# EAGLE library part V23079D1003B301 (library Display_Custom)
TE Connectivity Potter & Brumfield Relays V23079D1003B301 http://www.te.com/commerce/DocumentDelivery/DDEController?Action=srchrtrv&DocNm=108-98002&DocType=SS&DocLang=EN
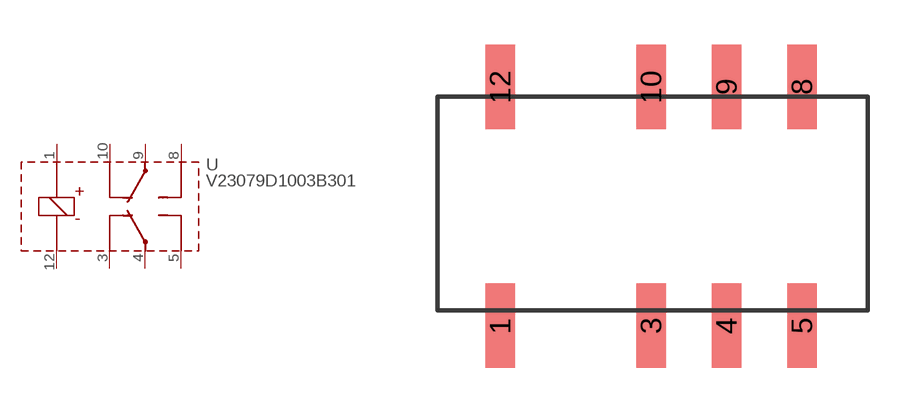
[diagram p3: symbol with the pads of DPDT_2C; footprint DPDT_2C]

Designator prefix -

## V23079D1003B301  [DPDT_2C]
1  COIL+
3  1_REST  pas
4  1_CENTER  pas
5  1_ACTIVE  pas
8  2_ACTIVE  pas
9  2_CENTER  pas
10  2_REST  pas
12  COIL-

## Footprint DPDT_2C (pad centres in mm)
DPDT Relay 2 Form C
smd 1 x 2.85: 1 -5.08,-4.025; 3 0,-4.025; 4 2.54,-4.025; 5 5.08,-4.025; 8 5.08,4.025; 9 2.54,4.025; 10 0,4.025; 12 -5.08,4.025